# Altium footprint library MOL0526100671.PcbLib: 1 footprints
Each footprint in its own frame and in the unit in brackets; x right, y up, seen from the top. Pads: shape width x height; smd on the part's side, far side on the other; paste and mask are expansions set on the pad; w line width, h text height; cw(c..) or ccw(c..) is an arc to the next point about the centre after c.
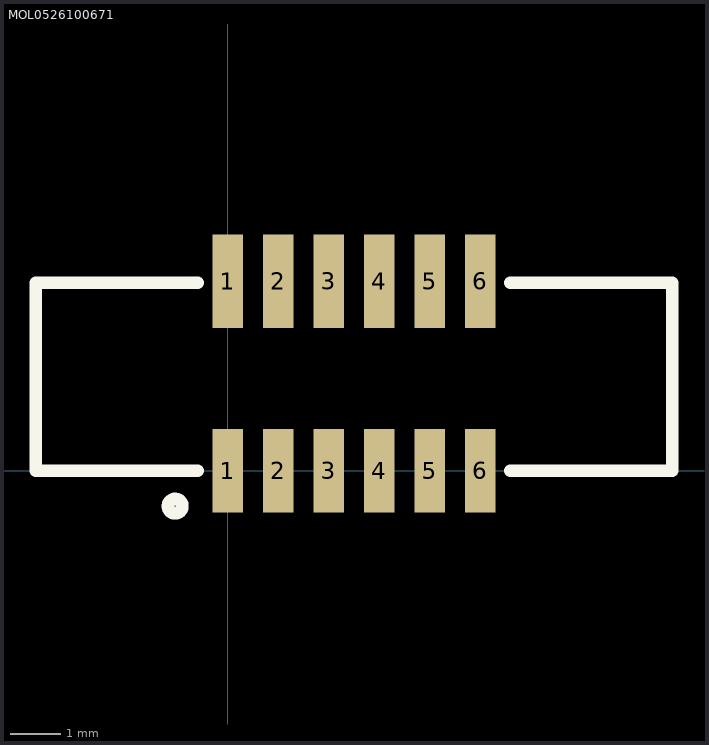
[diagram p0: the footprint, top view; thin cyan lines are the x and y axes]

## MOL0526100671 [mm]
pads (12):
  rect 0.6x1.65 smd: 1(0,0) 2(1,0) 3(2,0) 4(3,0) 5(4,0) 6(5,0)
  rect 0.6x1.85 smd: 1(0,3.75) 2(1,3.75) 3(2,3.75) 4(3,3.75) 5(4,3.75) 6(5,3.75)
Top Overlay:
  circle w0.254: c-1.041,-0.7 r0.141
  lines w0.254: -0.6,0 -3.8,0 -3.8,3.725 -0.6,3.725 ; 5.6,0 8.8,0 8.8,3.725 5.6,3.725
3D body: height 7.32, standoff 0.02, extent -3.8,-0.4 8.8,4.1